# EAGLE library part RC1180-MBUS3 (library jacek27)
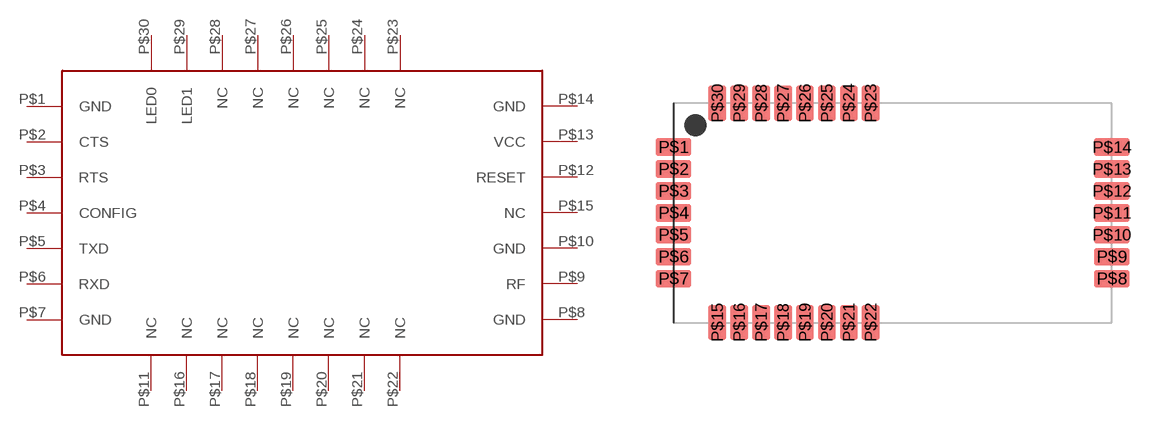
[diagram p0: symbol with the pads of RC1180-MBUS3; footprint RC1180-MBUS3]

Designator prefix -

## RC1180-MBUS3  [RC1180-MBUS3]
P$1  GND  pwr
P$2  CTS
P$3  RTS
P$4  CONFIG
P$5  TXD
P$6  RXD
P$7  GND  pwr
P$8  GND  pwr
P$9  RF
P$10  GND  pwr
P$11  NC
P$12  RESET  pwr
P$13  VCC
P$14  GND  pwr
P$15  NC
P$16  NC
P$17  NC
P$18  NC
P$19  NC
P$20  NC
P$21  NC
P$22  NC
P$23  NC
P$24  NC
P$25  NC
P$26  NC
P$27  NC
P$28  NC
P$29  LED1
P$30  LED0

## Footprint RC1180-MBUS3 (pad centres in mm)
smd 2.032 x 1.016: P$1 0,10.16; P$2 0,8.89; P$3 0,7.62; P$4 0,6.35; P$5 0,5.08; P$6 0,3.81; P$7 0,2.54; P$8 25.4,2.54; P$9 25.4,3.81; P$10 25.4,5.08; P$11 25.4,6.35; P$12 25.4,7.62; P$13 25.4,8.89; P$14 25.4,10.16
smd 1.016 x 2.032: P$15 2.54,0; P$16 3.81,0; P$17 5.08,0; P$18 6.35,0; P$19 7.62,0; P$20 8.89,0; P$21 10.16,0; P$22 11.43,0; P$23 11.43,12.7; P$24 10.16,12.7; P$25 8.89,12.7; P$26 7.62,12.7; P$27 6.35,12.7; P$28 5.08,12.7; P$29 3.81,12.7; P$30 2.54,12.7